# EAGLE library part LAN9221 (library DSDEagleLibrary)
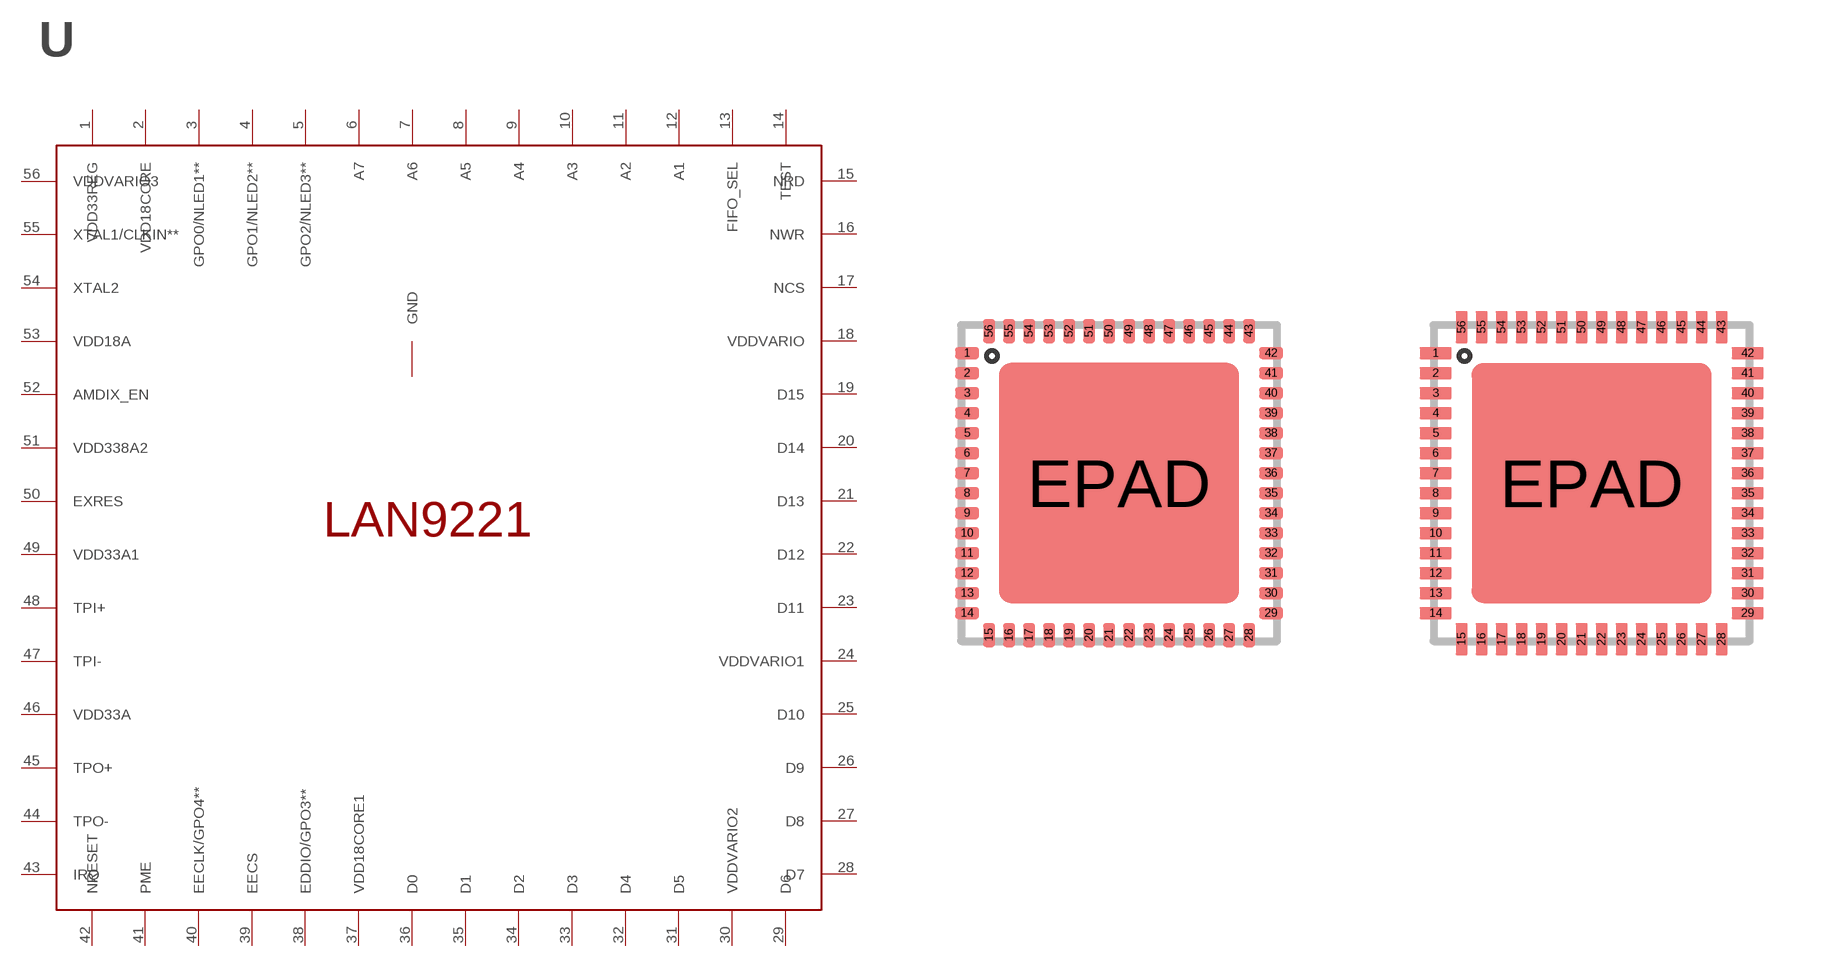
[diagram p4: symbol with the pads of QFN56; footprints QFN56, QFN56-L]

Designator prefix U

## LAN9221  [QFN56]
1  VDD33REG
2  VDD18CORE
3  GPO0/NLED1**
4  GPO1/NLED2**
5  GPO2/NLED3**
6  A7
7  A6
8  A5
9  A4
10  A3
11  A2
12  A1
13  FIFO_SEL
14  TEST
15  NRD
16  NWR
17  NCS
18  VDDVARIO
19  D15
20  D14
21  D13
22  D12
23  D11
24  VDDVARIO1
25  D10
26  D9
27  D8
28  D7
29  D6
30  VDDVARIO2
31  D5
32  D4
33  D3
34  D2
35  D1
36  D0
37  VDD18CORE1
38  EDDIO/GPO3**
39  EECS
40  EECLK/GPO4**
41  PME
42  NRESET
43  IRQ
44  TPO-
45  TPO+
46  VDD33A
47  TPI-
48  TPI+
49  VDD33A1
50  EXRES
51  VDD338A2
52  AMDIX_EN
53  VDD18A
54  XTAL2
55  XTAL1/CLKIN**
56  VDDVARIO3
EPAD  GND

## LAN9221QFN-L  [QFN56-L]
Pads as for QFN56

## Footprint QFN56 (pad centres in mm)
56-Lead QFN 8 x 8 mm LF56A Source: Source: http://www.cypress.com .. cy7c68013a_5.pdf
smd 0.6 x 0.3: 1 -3.8,3.25; 2 -3.8,2.75; 3 -3.8,2.25; 4 -3.8,1.75; 5 -3.8,1.25; 6 -3.8,0.75; 7 -3.8,0.25; 8 -3.8,-0.25; 9 -3.8,-0.75; 10 -3.8,-1.25; 11 -3.8,-1.75; 12 -3.8,-2.25; 13 -3.8,-2.75; 14 -3.8,-3.25; 29 3.8,-3.25; 30 3.8,-2.75; 31 3.8,-2.25; 32 3.8,-1.75; 33 3.8,-1.25; 34 3.8,-0.75; 35 3.8,-0.25; 36 3.8,0.25; 37 3.8,0.75; 38 3.8,1.25; 39 3.8,1.75; 40 3.8,2.25; 41 3.8,2.75; 42 3.8,3.25
smd 0.3 x 0.6: 15 -3.25,-3.8; 16 -2.75,-3.8; 17 -2.25,-3.8; 18 -1.75,-3.8; 19 -1.25,-3.8; 20 -0.75,-3.8; 21 -0.25,-3.8; 22 0.25,-3.8; 23 0.75,-3.8; 24 1.25,-3.8; 25 1.75,-3.8; 26 2.25,-3.8; 27 2.75,-3.8; 28 3.25,-3.8; 43 3.25,3.8; 44 2.75,3.8; 45 2.25,3.8; 46 1.75,3.8; 47 1.25,3.8; 48 0.75,3.8; 49 0.25,3.8; 50 -0.25,3.8; 51 -0.75,3.8; 52 -1.25,3.8; 53 -1.75,3.8; 54 -2.25,3.8; 55 -2.75,3.8; 56 -3.25,3.8
smd 6 x 6: EPAD 0,0

## Footprint QFN56-L (pad centres in mm)
smd 0.8 x 0.3: 1 -3.85,3.25; 2 -3.85,2.75; 3 -3.85,2.25; 4 -3.85,1.75; 5 -3.85,1.25; 6 -3.85,0.75; 7 -3.85,0.25; 8 -3.85,-0.25; 9 -3.85,-0.75; 10 -3.85,-1.25; 11 -3.85,-1.75; 12 -3.85,-2.25; 13 -3.85,-2.75; 14 -3.85,-3.25; 29 3.95,-3.25; 30 3.95,-2.75; 31 3.95,-2.25; 32 3.95,-1.75; 33 3.95,-1.25; 34 3.95,-0.75; 35 3.95,-0.25; 36 3.95,0.25; 37 3.95,0.75; 38 3.95,1.25; 39 3.95,1.75; 40 3.95,2.25; 41 3.95,2.75; 42 3.95,3.25
smd 0.3 x 0.8: 15 -3.2,-3.9; 16 -2.7,-3.9; 17 -2.2,-3.9; 18 -1.7,-3.9; 19 -1.2,-3.9; 20 -0.7,-3.9; 21 -0.2,-3.9; 22 0.3,-3.9; 23 0.8,-3.9; 24 1.3,-3.9; 25 1.8,-3.9; 26 2.3,-3.9; 27 2.8,-3.9; 28 3.3,-3.9; 43 3.3,3.9; 44 2.8,3.9; 45 2.3,3.9; 46 1.8,3.9; 47 1.3,3.9; 48 0.8,3.9; 49 0.3,3.9; 50 -0.2,3.9; 51 -0.7,3.9; 52 -1.2,3.9; 53 -1.7,3.9; 54 -2.2,3.9; 55 -2.7,3.9; 56 -3.2,3.9
smd 6 x 6: EPAD 0.05,0